# Altium footprint library FTS-140.PcbLib: 2 footprints
Each footprint in its own frame and in the unit in brackets; x right, y up, seen from the top. Pads: shape width x height; smd on the part's side, far side on the other; paste and mask are expansions set on the pad; w line width, h text height; cw(c..) or ccw(c..) is an arc to the next point about the centre after c.
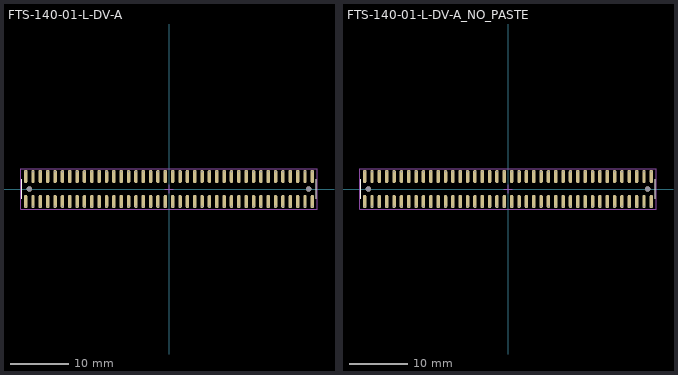
[diagram p0: the footprints below, top view; thin cyan lines are the x and y axes]

## FTS-140-01-L-DV-A [mm] "1.27 mm Micro Low Profile Terminal Strip"
height 3.56
pads (242):
  oval 0.6x2.3 hole 0.3 copper offset 0,0.838: 1(-24.765,-3) 3(-23.495,-3) 5(-22.225,-3) 7(-20.955,-3) 9(-19.685,-3) 11(-18.415,-3) 13(-17.145,-3) 15(-15.875,-3) 17(-14.605,-3) 19(-13.335,-3) 21(-12.065,-3) 23(-10.795,-3) 25(-9.525,-3) 27(-8.255,-3) 29(-6.985,-3) 31(-5.715,-3) 33(-4.445,-3) 35(-3.175,-3) 37(-1.905,-3) 39(-0.635,-3) 41(0.635,-3) 43(1.905,-3) 45(3.175,-3) 47(4.445,-3) 49(5.715,-3) 51(6.985,-3) 53(8.255,-3) 55(9.525,-3) 57(10.795,-3) 59(12.065,-3) 61(13.335,-3) 63(14.605,-3) 65(15.875,-3) 67(17.145,-3) 69(18.415,-3) 71(19.685,-3) 73(20.955,-3) 75(22.225,-3) 77(23.495,-3) 79(24.765,-3)
  oval 0.6x2.3 hole 0.3 copper offset 0,-0.838: 2(-24.765,3) 4(-23.495,3) 6(-22.225,3) 8(-20.955,3) 10(-19.685,3) 12(-18.415,3) 14(-17.145,3) 16(-15.875,3) 18(-14.605,3) 20(-13.335,3) 22(-12.065,3) 24(-10.795,3) 26(-9.525,3) 28(-8.255,3) 30(-6.985,3) 32(-5.715,3) 34(-4.445,3) 36(-3.175,3) 38(-1.905,3) 40(-0.635,3) 42(0.635,3) 44(1.905,3) 46(3.175,3) 48(4.445,3) 50(5.715,3) 52(6.985,3) 54(8.255,3) 56(9.525,3) 58(10.795,3) 60(12.065,3) 62(13.335,3) 64(14.605,3) 66(15.875,3) 68(17.145,3) 70(18.415,3) 72(19.685,3) 74(20.955,3) 76(22.225,3) 78(23.495,3) 80(24.765,3)
  round 0.914 hole 0.914 unplated paste+0 mask+0: 81(-24.13,0) 82(24.13,0)
  oval 0.6x2.3 on Top Paste paste+0 mask+0: 83(-24.765,-3) 84(-23.495,-3) 85(-22.225,-3) 86(-20.955,-3) 87(-19.685,-3) 88(-18.415,-3) 89(-17.145,-3) 90(-15.875,-3) 91(-14.605,-3) 92(-13.335,-3) 93(-12.065,-3) 94(-10.795,-3) 95(-9.525,-3) 96(-8.255,-3) 97(-6.985,-3) 98(-5.715,-3) 99(-4.445,-3) 100(-3.175,-3) 101(-1.905,-3) 102(-0.635,-3) 103(0.635,-3) 104(1.905,-3) 105(3.175,-3) 106(4.445,-3) 107(5.715,-3) 108(6.985,-3) 109(8.255,-3) 110(9.525,-3) 111(10.795,-3) 112(12.065,-3) 113(13.335,-3) 114(14.605,-3) 115(15.875,-3) 116(17.145,-3) 117(18.415,-3) 118(19.685,-3) 119(20.955,-3) 120(22.225,-3) 121(23.495,-3) 122(24.765,-3) 123(-24.765,3) 124(-23.495,3) 125(-22.225,3) 126(-20.955,3) 127(-19.685,3) 128(-18.415,3) 129(-17.145,3) 130(-15.875,3) 131(-14.605,3) 132(-13.335,3) 133(-12.065,3) 134(-10.795,3) 135(-9.525,3) 136(-8.255,3) 137(-6.985,3) 138(-5.715,3) 139(-4.445,3) 140(-3.175,3) 141(-1.905,3) 142(-0.635,3) 143(0.635,3) 144(1.905,3) 145(3.175,3) 146(4.445,3) 147(5.715,3) 148(6.985,3) 149(8.255,3) 150(9.525,3) 151(10.795,3) 152(12.065,3) 153(13.335,3) 154(14.605,3) 155(15.875,3) 156(17.145,3) 157(18.415,3) 158(19.685,3) 159(20.955,3) 160(22.225,3) 161(23.495,3) 162(24.765,3)
  oval 0.6x2.3 on Bottom Paste paste+0 mask+0: 164(-24.765,3) 165(-23.495,3) 166(-22.225,3) 167(-20.955,3) 168(-19.685,3) 169(-18.415,3) 170(-17.145,3) 171(-15.875,3) 172(-14.605,3) 173(-13.335,3) 174(-12.065,3) 175(-10.795,3) 176(-9.525,3) 177(-8.255,3) 178(-6.985,3) 179(-5.715,3) 180(-4.445,3) 181(-3.175,3) 182(-1.905,3) 183(-0.635,3) 184(0.635,3) 185(1.905,3) 186(3.175,3) 187(4.445,3) 188(5.715,3) 189(6.985,3) 190(8.255,3) 191(9.525,3) 192(10.795,3) 193(12.065,3) 194(13.335,3) 195(14.605,3) 196(15.875,3) 197(17.145,3) 198(18.415,3) 199(19.685,3) 200(20.955,3) 201(22.225,3) 202(23.495,3) 203(24.765,3) 204(24.765,-3) 205(23.495,-3) 206(22.225,-3) 207(20.955,-3) 208(19.685,-3) 209(18.415,-3) 210(17.145,-3) 211(15.875,-3) 212(14.605,-3) 213(13.335,-3) 214(12.065,-3) 215(10.795,-3) 216(9.525,-3) 217(8.255,-3) 218(6.985,-3) 219(5.715,-3) 220(4.445,-3) 221(3.175,-3) 222(1.905,-3) 223(0.635,-3) 224(-0.635,-3) 225(-1.905,-3) 226(-3.175,-3) 227(-4.445,-3) 228(-5.715,-3) 229(-6.985,-3) 230(-8.255,-3) 231(-9.525,-3) 232(-10.795,-3) 233(-12.065,-3) 234(-13.335,-3) 235(-14.605,-3) 236(-15.875,-3) 237(-17.145,-3) 238(-18.415,-3) 239(-19.685,-3) 240(-20.955,-3) 241(-22.225,-3) 242(-23.495,-3) 243(-24.765,-3)
Top Overlay:
  lines w0.2: -25.4,-1.651 -25.4,1.651 ; 25.4,-1.651 25.4,1.651
Mechanical 15:
  lines w0.05: -0.7,0 0.7,0 ; 0,-0.7 0,0.7 ; -25.6,-3.5 -25.6,3.5 25.6,3.5 25.6,-3.5 -25.6,-3.5
3D body "FTS-140-01-L-DV-A.stp": height 4.32, standoff -0.86, extent -25.4,-2.921 25.4,2.921

## FTS-140-01-L-DV-A_NO_PASTE [mm] "1.27 mm Micro Low Profile Terminal Strip, without solder paste expansion"
height 3.56
pads (82):
  oval 0.6x2.3 hole 0.3 copper offset 0,0.838 paste-10: 1(-24.765,-3) 3(-23.495,-3) 5(-22.225,-3) 7(-20.955,-3) 9(-19.685,-3) 11(-18.415,-3) 13(-17.145,-3) 15(-15.875,-3) 17(-14.605,-3) 19(-13.335,-3) 21(-12.065,-3) 23(-10.795,-3) 25(-9.525,-3) 27(-8.255,-3) 29(-6.985,-3) 31(-5.715,-3) 33(-4.445,-3) 35(-3.175,-3) 37(-1.905,-3) 39(-0.635,-3) 41(0.635,-3) 43(1.905,-3) 45(3.175,-3) 47(4.445,-3) 49(5.715,-3) 51(6.985,-3) 53(8.255,-3) 55(9.525,-3) 57(10.795,-3) 59(12.065,-3) 61(13.335,-3) 63(14.605,-3) 65(15.875,-3) 67(17.145,-3) 69(18.415,-3) 71(19.685,-3) 73(20.955,-3) 75(22.225,-3) 77(23.495,-3) 79(24.765,-3)
  oval 0.6x2.3 hole 0.3 copper offset 0,-0.838 paste-10: 2(-24.765,3) 4(-23.495,3) 6(-22.225,3) 8(-20.955,3) 10(-19.685,3) 12(-18.415,3) 14(-17.145,3) 16(-15.875,3) 18(-14.605,3) 20(-13.335,3) 22(-12.065,3) 24(-10.795,3) 26(-9.525,3) 28(-8.255,3) 30(-6.985,3) 32(-5.715,3) 34(-4.445,3) 36(-3.175,3) 38(-1.905,3) 40(-0.635,3) 42(0.635,3) 44(1.905,3) 46(3.175,3) 48(4.445,3) 50(5.715,3) 52(6.985,3) 54(8.255,3) 56(9.525,3) 58(10.795,3) 60(12.065,3) 62(13.335,3) 64(14.605,3) 66(15.875,3) 68(17.145,3) 70(18.415,3) 72(19.685,3) 74(20.955,3) 76(22.225,3) 78(23.495,3) 80(24.765,3)
  round 0.914 hole 0.914 unplated paste-10 mask+0: 81(-24.13,0) 82(24.13,0)
Top Overlay:
  lines w0.2: -25.4,-1.651 -25.4,1.651 ; 25.4,-1.651 25.4,1.651
Mechanical 15:
  lines w0.05: -0.7,0 0.7,0 ; 0,-0.7 0,0.7 ; -25.6,-3.5 -25.6,3.5 25.6,3.5 25.6,-3.5 -25.6,-3.5
3D body "FTS-140-01-L-DV-A.stp": height 4.32, standoff -0.86, extent -25.4,-2.921 25.4,2.921